# Altium schematic symbol library Schlib1.SchLib: 2 symbols
Pins are listed as number, name and electrical type; pins without a type are passive.

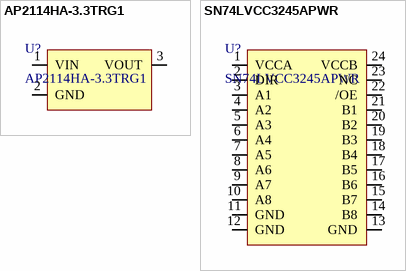
[diagram p0: symbols AP2114HA-3.3TRG1 to SN74LVCC3245APWR]

## AP2114HA-3.3TRG1
designator U?
PMIC - Spannungsregler - Linear Positiv Fest 1 Ausgang 1A SOT-223-3
footprint SOT223
pins: 1 VIN, 2 GND, 3 VOUT

## SN74LVCC3245APWR
designator U?
Spannungspegel Umsetzer Bidirektional 1 Schaltungen 8 Kanäle 24-TSSOP; ComponentLink1Description: Datasheet; ComponentLink1URL: https://www.ti.com/general/docs/suppproductinfo.tsp?distId=10&gotoUrl=https%3A%2F%2Fwww.ti.com%2Flit%2Fgpn%2Fsn74lvcc3245a
footprint TSSOP24
pins: 1 VCCA, 2 DIR, 3 A1, 4 A2, 5 A3, 6 A4, 7 A5, 8 A6, 9 A7, 10 A8, 11 GND, 12 GND, 13 GND, 14 B8, 15 B7, 16 B6, 17 B5, 18 B4, 19 B3, 20 B2, 21 B1, 22 /OE, 23 NC, 24 VCCB